# Altium footprint library KNoT-Gateway.PcbLib: 21 footprints (part 1 of 2)
Each footprint in its own frame and in the unit in brackets; x right, y up, seen from the top. Pads: shape width x height; smd on the part's side, far side on the other; paste and mask are expansions set on the pad; w line width, h text height; cw(c..) or ccw(c..) is an arc to the next point about the centre after c.
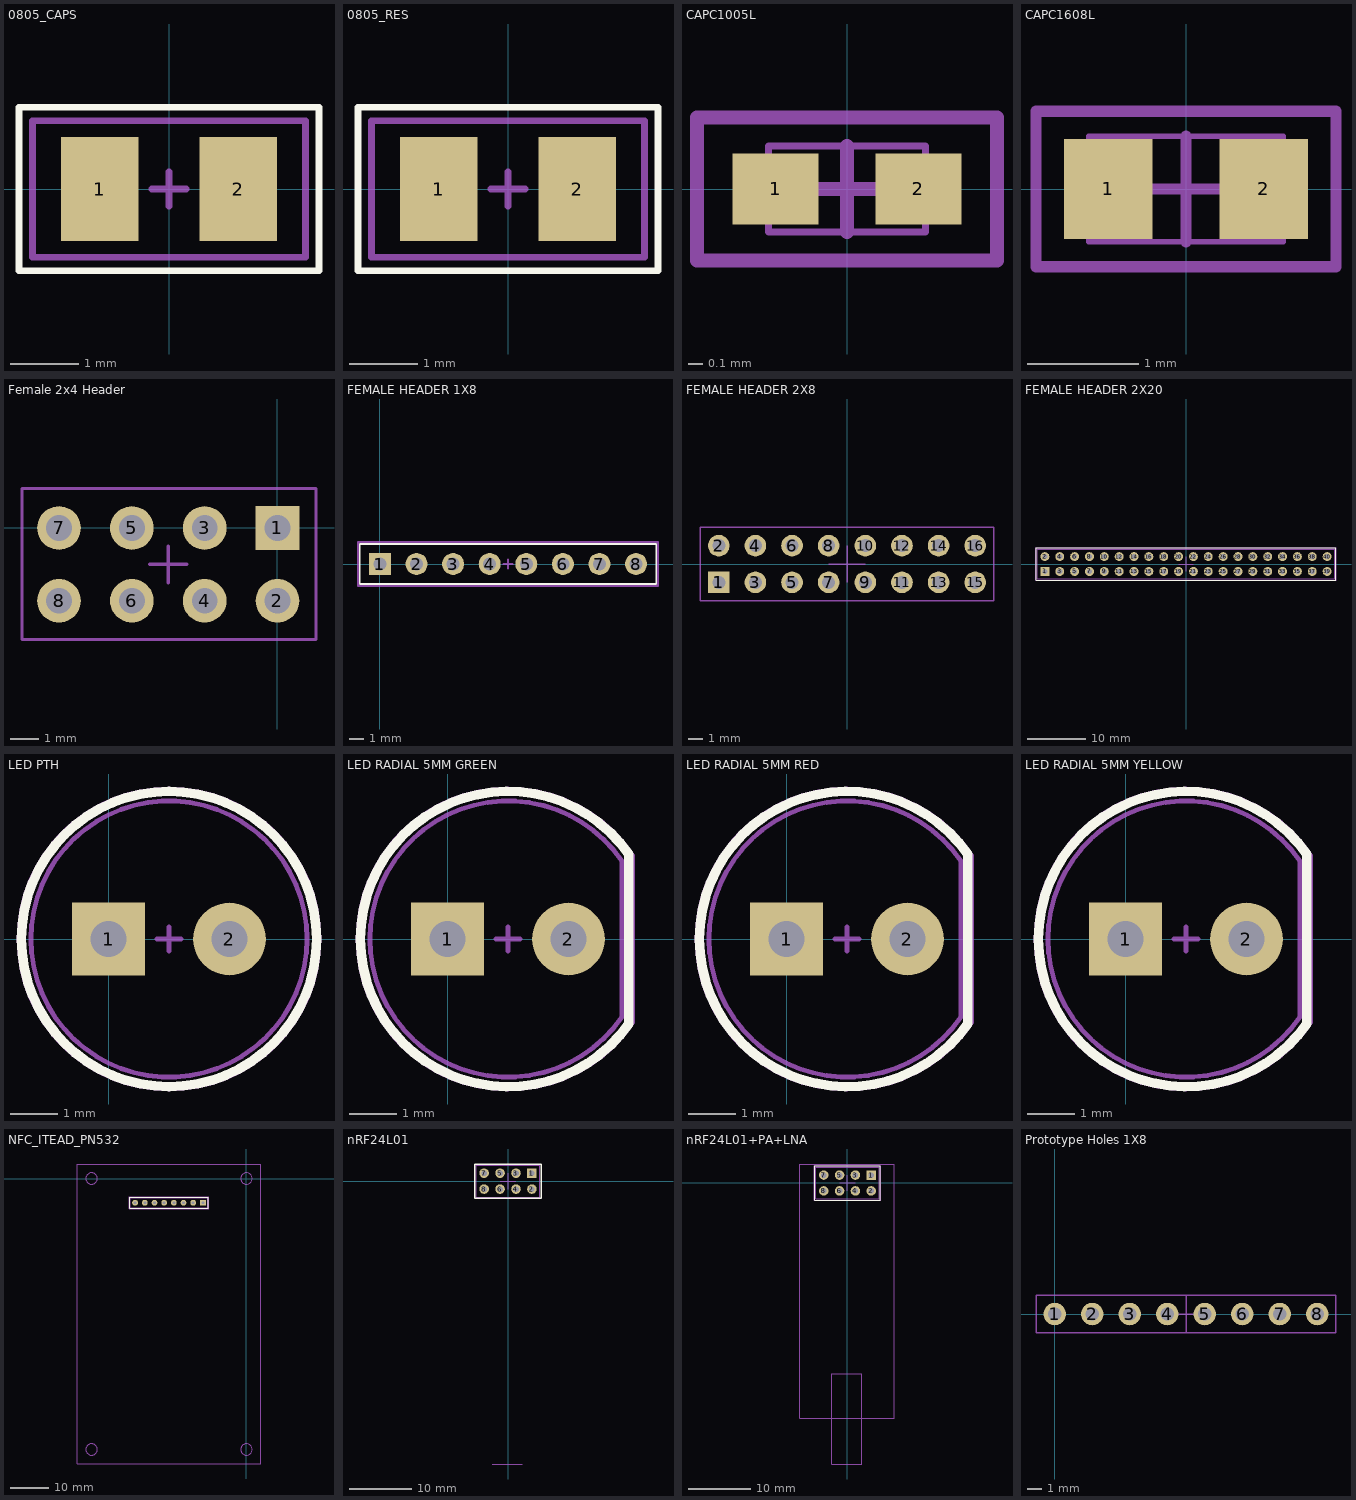
[diagram p0: the footprints below, top view; thin cyan lines are the x and y axes]

## 0805_CAPS [mil] "08'' x 05'' Passive Surface Mounted Device"
pads (2):
  rect 45x60 smd: 1(-40,0) 2(40,0)
Top Overlay:
  lines w3.94: -86.61,-47.24 -86.61,47.24 86.61,47.24 86.61,-47.24 -86.61,-47.24
Mechanical 1:
  lines w3.94: -78.74,-39.37 -78.74,0 -78.74,39.37 78.74,39.37 78.74,-39.37 -78.74,-39.37
Mechanical 15:
  lines w3.94: -10,0 0,0 ; 0,-10 0,10 0,0 ; 10,0 0,0
3D body: height 39.37, standoff 0, extent -39.37,-24.6 39.37,24.61

## 0805_RES [mil] "08'' x 05'' Passive Surface Mounted Device"
pads (2):
  rect 45x60 smd: 1(-40,0) 2(40,0)
Top Overlay:
  lines w3.94: -86.61,-47.24 -86.61,47.24 86.61,47.24 86.61,-47.24 -86.61,-47.24
Mechanical 1:
  lines w3.94: -78.74,-39.37 -78.74,0 -78.74,39.37 78.74,39.37 78.74,-39.37 -78.74,-39.37
Mechanical 15:
  lines w3.94: -10,0 0,0 ; 0,-10 0,10 0,0 ; 10,0 0,0
3D body: height 29.92, standoff 0, extent -45.27,-26.57 45.28,26.58

## CAPC1005L [mm]
pads (2):
  rect 0.6x0.5 smd: 1(-0.5,0) 2(0.5,0)
Mechanical 11:
  lines w0.05: -0.55,-0.3 0.55,-0.3 0.55,0.3 -0.55,0.3 -0.55,-0.3
Mechanical 15:
  lines w0.1: -0.3,0 0.3,0 ; 0,-0.3 0,0.3 ; -1.05,-0.5 -1.05,0.5 1.05,0.5 1.05,-0.5 -1.05,-0.5
3D body: height 0.6, standoff 0, extent -0.55,-0.3 0.55,0.3

## CAPC1608L [mm]
pads (2):
  rect 0.8x0.9 smd: 1(-0.7,0) 2(0.7,0)
Mechanical 11:
  lines w0.05: -0.875,-0.475 -0.875,0.475 0.875,0.475 0.875,-0.475 -0.875,-0.475
Mechanical 15:
  lines w0.1: -0.475,0 0.475,0 ; 0,-0.475 0,0.475 ; -1.35,-0.7 -1.35,0.7 1.35,0.7 1.35,-0.7 -1.35,-0.7
3D body: height 0.85, standoff 0, extent -0.875,-0.475 0.875,0.475

## Female 2x4 Header [mil] "Bottom Female 2x4 Header"
pads (8):
  rect 60x60 hole 35.43: 1(0,0)
  round 60 hole 35.43: 2(0,-100) 3(-100,0) 4(-100,-100) 5(-200,0) 6(-200,-100) 7(-300,0) 8(-300,-100)
Bottom Overlay:
  lines w3.94: -355,-157 -355,-149 -355,50 -355,58 55,58 57,58 57,50 57,-149 57,-157 -355,-157
Mechanical 15:
  lines w3.94: -351,-153 53,-153 53,54 -351,54 -351,-153
  lines w5: -175,-50 -150,-50 -125,-50 ; -150,-75 -150,-25
3D body: height 104.02, standoff -350.71, extent -49.21,-150 49.21,50
3D body: height 104.02, standoff -350.71, extent -150,-150 -51.57,50
3D body: height 104.02, standoff -350.71, extent -248.43,-150 -150,50
3D body: height 104.02, standoff -350.71, extent -348.43,-150 -250,50

## FEMALE HEADER 1X8 [mil] "FEMALE HEADER 1X8"
pads (8):
  rect 60x60 hole 35.43: 1(0,0)
  round 60 hole 35.43: 2(100,0) 3(200,0) 4(300,0) 5(400,0) 6(500,0) 7(600,0) 8(700,0)
Top Overlay:
  lines w5: -55,-55 755,-55 755,55 -55,55 -55,-55
Mechanical 15:
  lines w5: 337.5,0 350,0 ; 350,-12.5 350,0 ; 350,12.5 350,0 ; 362.5,0 350,0 ; -60,-60 -60,60 760,60 760,-60 -60,-60
3D body: height 330.71, standoff -124.02, extent 550,-50 750,48.43
3D body: height 330.71, standoff -124.02, extent 350,-50 550,48.43
3D body: height 330.71, standoff -124.02, extent 150,-50 350,48.43
3D body: height 330.71, standoff -124.02, extent -50,-50 150,48.43

## FEMALE HEADER 2X8 [mm] "Female Header Bottom Connector 2x8"
pads (16):
  rect 1.5x1.5 hole 0.9: 1(-8.89,-1.27)
  round 1.5 hole 0.9: 2(-8.89,1.27) 3(-6.35,-1.27) 4(-6.35,1.27) 5(-3.81,-1.27) 6(-3.81,1.27) 7(-1.27,-1.27) 8(-1.27,1.27) 9(1.27,-1.27) 10(1.27,1.27) 11(3.81,-1.27) 12(3.81,1.27) 13(6.35,-1.27) 14(6.35,1.27) 15(8.89,-1.27) 16(8.89,1.27)
Bottom Overlay:
  lines w0.2: -10.4,-2.8 -10.4,2.8 0,2.8 10.4,2.8 10.4,-2.8 -10.4,-2.8
Mechanical 1:
  lines w0.1: -10.16,-2.54 -10.16,2.54 10.16,2.54 10.16,-2.54 -10.16,-2.54
Mechanical 15:
  lines w0.1: -1.27,0 1.27,0 ; 0,-1.27 0,1.27 0,0
3D body: height 3.05, standoff -4.6, extent -10.16,-2.54 0,2.54
3D body: height 3.05, standoff -4.6, extent 0,-2.54 10.16,2.54

## FEMALE HEADER 2X20 [mil] "Female Header 2x20, 2.54mm pitch"
pads (40):
  rect 60x60 hole 35.43: 1(-950,-50)
  round 60 hole 35.43: 2(-950,50) 3(-850,-50) 4(-850,50) 5(-750,-50) 6(-750,50) 7(-650,-50) 8(-650,50) 9(-550,-50) 10(-550,50) 11(-450,-50) 12(-450,50) 13(-350,-50) 14(-350,50) 15(-250,-50) 16(-250,50) 17(-150,-50) 18(-150,50) 19(-50,-50) 20(-50,50) 21(50,-50) 22(50,50) 23(150,-50) 24(150,50) 25(250,-50) 26(250,50) 27(350,-50) 28(350,50) 29(450,-50) 30(450,50) 31(550,-50) 32(550,50) 33(650,-50) 34(650,50) 35(750,-50) 36(750,50) 37(850,-50) 38(850,50) 39(950,-50) 40(950,50)
Top Overlay:
  lines w7.87: -1007.87,-107.68 -1007.87,107.87 1007.87,107.87 1007.87,-107.68 -1007.87,-107.68
Mechanical 11:
  lines w1.97: -1000,-100 -1000,100 1000,100 1000,-100 -1000,-100
Mechanical 15:
  lines w3.94: -50,0 50,0 ; 0,-50 0,50 ; -1009.84,-109.65 1009.84,-109.65 1009.84,109.84 -1009.84,109.84 -1009.84,-109.65
3D body: height 379.92, standoff -535.04, extent -997.24,-101.57 -597.24,98.43
3D body: height 379.92, standoff -535.04, extent -600,-100 -200,100
3D body: height 379.92, standoff -535.04, extent -200,-101.57 200,98.43
3D body: height 379.92, standoff -535.04, extent 200,-99.99 600,100.01
3D body: height 379.92, standoff -535.04, extent 597.24,-101.57 997.24,98.43

## LED PTH [mil]
pads (2):
  rect 60x60 hole 30: 1(0,0)
  round 60 hole 30: 2(100,0)
Top Overlay:
  circle w7.87: c50,0 r122.05
Mechanical 1:
  circle w3.94: c50,0 r114.17
Mechanical 15:
  circle w3.94: c50,0 r124.02
  lines w3.94: 40.16,0 50,0 ; 50,-9.84 50,0 ; 50,9.84 50,0 ; 59.84,0 50,0
3D body: height 212, standoff -125, extent -28.42,-58.99 128.43,78.51

## LED RADIAL 5MM GREEN [mil] "LED RADIAL 5MM THROUGH HOLE 100 MILS PITCH"
pads (2):
  rect 60x60 hole 30: 1(0,0)
  round 60 hole 30: 2(100,0)
Top Overlay:
  lines w7.87: 149.98,-69.99 cw(c50,0) 149.98,69.99 149.99,-69.99
Mechanical 1:
  lines w3.94: 144.23,-64.47 cw(c50,0) 144.23,64.47 144.23,-64.47
Mechanical 15:
  lines w3.94: 40.16,0 50,0 ; 50,-9.84 50,0 ; 50,9.84 50,0 ; 59.84,0 50,0 ; 153.19,-68.79 cw(c50,0) 153.19,68.79 153.19,-68.79
3D body: height 352.16, standoff -255.91, extent -68.11,-118.11 148.43,118.11

## LED RADIAL 5MM RED [mil] "LED RADIAL 5MM THROUGH HOLE 100 MILS PITCH"
pads (2):
  rect 60x60 hole 30: 1(0,0)
  round 60 hole 30: 2(100,0)
Top Overlay:
  lines w7.87: 149.98,-69.99 cw(c50,0) 149.98,69.99 149.99,-69.99
Mechanical 1:
  lines w3.94: 144.23,-64.47 cw(c50,0) 144.23,64.47 144.23,-64.47
Mechanical 15:
  lines w3.94: 40.16,0 50,0 ; 50,-9.84 50,0 ; 50,9.84 50,0 ; 59.84,0 50,0 ; 153.19,-68.79 cw(c50,0) 153.19,68.79 153.19,-68.79
3D body: height 352.16, standoff -255.91, extent -68.11,-118.11 148.43,118.11

## LED RADIAL 5MM YELLOW [mil] "LED RADIAL 5MM THROUGH HOLE 100 MILS PITCH"
pads (2):
  rect 60x60 hole 30: 1(0,0)
  round 60 hole 30: 2(100,0)
Top Overlay:
  lines w7.87: 149.98,-69.99 cw(c50,0) 149.98,69.99 149.99,-69.99
Mechanical 1:
  lines w3.94: 144.23,-64.47 cw(c50,0) 144.23,64.47 144.23,-64.47
Mechanical 15:
  lines w3.94: 40.16,0 50,0 ; 50,-9.84 50,0 ; 50,9.84 50,0 ; 59.84,0 50,0 ; 153.19,-68.79 cw(c50,0) 153.19,68.79 153.19,-68.79
3D body: height 352.16, standoff -255.91, extent -68.11,-118.11 148.43,118.11

## NFC_ITEAD_PN532 [mil]
pads (8):
  rect 60x60 hole 30: 1(-450,-250)
  round 60 hole 30: 2(-550,-250) 3(-650,-250) 4(-750,-250) 5(-850,-250) 6(-950,-250) 7(-1050,-250) 8(-1150,-250)
Top Overlay:
  lines w7.87: -1207.87,-307.87 -1207.87,-192.13 -392.13,-192.13 -392.13,-307.87 -1207.87,-307.87
Mechanical 11:
  circle w1.97: c0,0 r59.06
  circle w1.97: c0,-2800 r59.06
  circle w1.97: c-1600,-2800 r59.06
  circle w1.97: c-1600,0 r59.06
  lines w1.97: -1750,-2950 150,-2950 150,150 -1750,150 -1750,-2950 ; -1200,-300 -1200,-200 -400,-200 -400,-300 -1200,-300
Mechanical 13:
  lines w2.52: -1200,-300 -1200,-200 -400,-200 -400,-300 -1200,-300
Mechanical 15:
  lines w3.94: -1209.84,-309.84 -1209.84,-190.16 -390.16,-190.16 -390.16,-309.84 -1209.84,-309.84
3D body: height 669.29, standoff -118.9, extent -1750,-3000 150,100

## nRF24L01 [mil] "nRF24L01 Module"
height 472.44
pads (8):
  rect 60x60 hole 35.43: 1(150,50)
  round 60 hole 35.43: 2(150,-50) 3(50,50) 4(50,-50) 5(-50,50) 6(-50,-50) 7(-150,50) 8(-150,-50)
Top Overlay:
  lines w7.87: -207.87,-107.87 -200,-107.87 207.48,-107.87 207.48,107.68 -207.87,107.68 -207.87,-107.87
Mechanical 1:
  lines w3.94: -200,-100 -200,100 0,100 200,100 200,-100 -200,-100
Mechanical 11:
  lines w1.97: -100,-1777 90,-1777
Mechanical 15:
  lines w3.94: -50,0 0,0 ; 0,-50 0,50 0,0 ; 50,0 0,0
3D body: height 472.44, standoff -114.62, extent -375,-1020.87 215.55,120.87

## nRF24L01+PA+LNA [mil] "nRF24L01+PA+LNA MODULE"
height 472.44
pads (8):
  rect 60x60 hole 35.43: 1(150,50)
  round 60 hole 35.43: 2(150,-50) 3(50,50) 4(50,-50) 5(-50,50) 6(-50,-50) 7(-150,50) 8(-150,-50)
Top Overlay:
  lines w7.87: -207.87,-107.87 -200,-107.87 207.48,-107.87 207.48,107.68 -207.87,107.68 -207.87,-107.87
Mechanical 11:
  lines w1.97: -301,-1489 295,-1489 295,120 -301,120 -301,-1489 ; -200,-100 200,-100 200,100 -200,100 -200,-100 ; -100,-1777 -100,-1206 90,-1206 90,-1777 -100,-1777
Mechanical 15:
  lines w3.94: -50,0 0,0 ; 0,-50 0,50 0,0 ; 50,0 0,0 ; -209.84,-109.84 209.45,-109.84 209.45,109.65 -209.84,109.65 -209.84,-100 -209.84,-109.84
3D body: height -102.31, standoff -3842.34, extent -301.5,-2438.56 291.5,125

## Prototype Holes 1X8 [mil] "Holes1X8"
pads (8):
  round 60 hole 35.43: 1(0,0) 2(100,0) 3(200,0) 4(300,0) 5(400,0) 6(500,0) 7(600,0) 8(700,0)
Mechanical 15:
  lines w3.94: 300,0 400,0 ; 350,-50 350,50 ; -50,-50 750,-50 750,50 -50,50 -50,-50